# EAGLE library part SDCARD-15TW-8821 (library st-mod v1.3)
SD Card SDCARD 15TW 8821
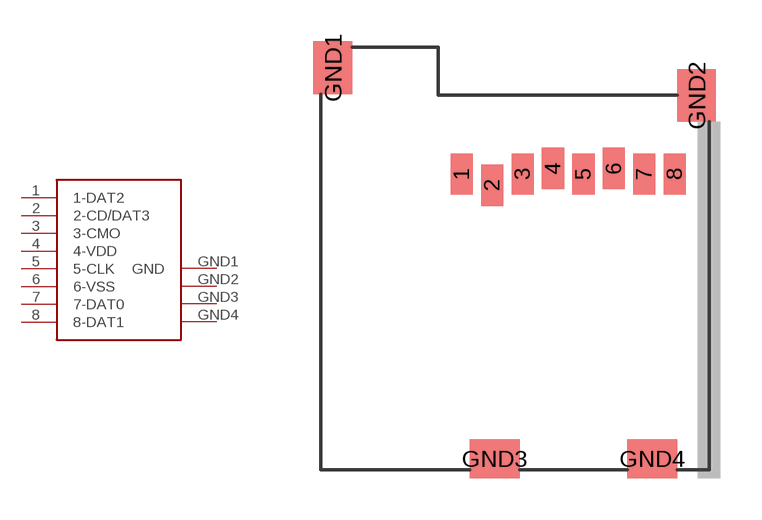
[diagram p0: symbol with the pads of SDCARD-15TW-8821; footprint SDCARD-15TW-8821]

Designator prefix -

## SDCARD-15TW-8821  [SDCARD-15TW-8821]
1  1-DAT2
2  2-CD/DAT3
3  3-CMO
4  4-VDD
5  5-CLK
6  6-VSS
7  7-DAT0
8  8-DAT1
GND1  GND  pwr
GND2  GND1  pwr
GND3  GND2  pwr
GND4  GND3  pwr

## Footprint SDCARD-15TW-8821 (pad centres in mm)
smd 0.8 x 1.5: 1 0,0; 2 1.1,-0.4; 3 2.2,0; 4 3.3,0.2; 5 4.4,0; 6 5.5,0.2; 7 6.6,0; 8 7.7,0
smd 1.4 x 1.9: GND1 -4.66,3.85; GND2 8.49,2.85
smd 1.8 x 1.4: GND3 1.19,-10.3; GND4 6.89,-10.3